# EAGLE library part HBRIDGE (library ME433)
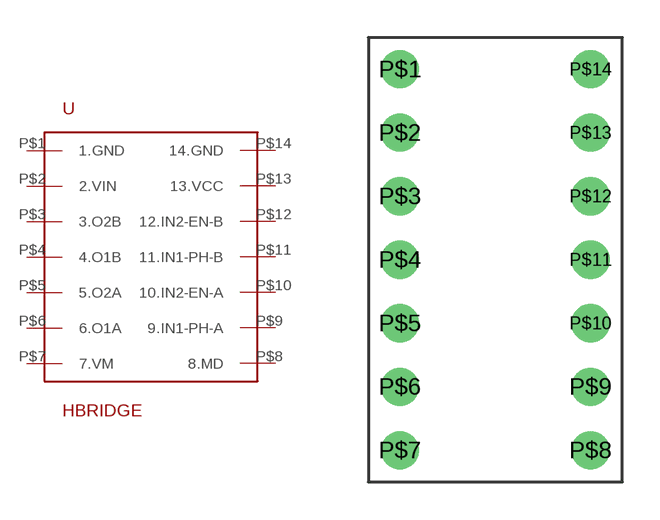
[diagram p7: symbol with the pads of HBRIDGE; footprint HBRIDGE]

Designator prefix -

## HBRIDGE  [HBRIDGE]
P$1  1.GND
P$2  2.VIN
P$3  3.O2B
P$4  4.O1B
P$5  5.O2A
P$6  6.O1A
P$7  7.VM
P$8  8.MD
P$9  9.IN1-PH-A
P$10  10.IN2-EN-A
P$11  11.IN1-PH-B
P$12  12.IN2-EN-B
P$13  13.VCC
P$14  14.GND

## Footprint HBRIDGE (pad centres in mm)
drill 1.016: P$1 -2.54,7.62; P$2 -2.54,5.08; P$3 -2.54,2.54; P$4 -2.54,0; P$5 -2.54,-2.54; P$6 -2.54,-5.08; P$7 -2.54,-7.62; P$8 5.08,-7.62; P$9 5.08,-5.08; P$10 5.08,-2.54; P$11 5.08,0; P$12 5.08,2.54; P$13 5.08,5.08; P$14 5.08,7.62